# Altium integrated library ON Semi ESD Protection Diodes & Arrays.IntLib: 286 symbols (part 7 of 8)
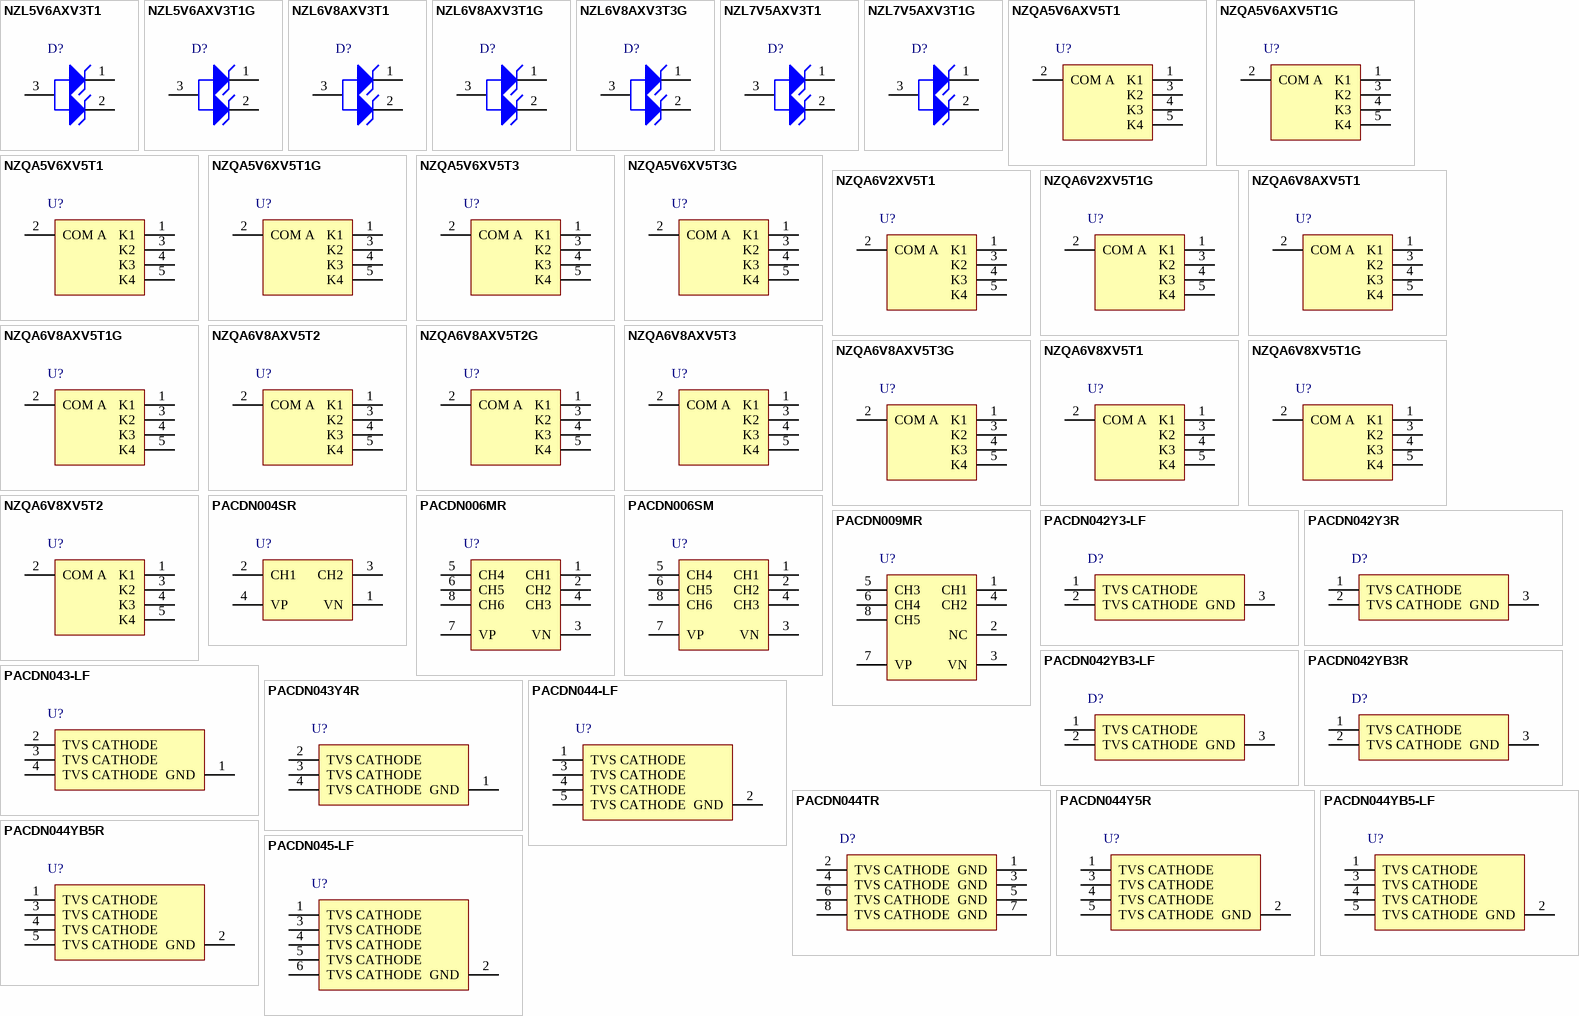
[diagram p13: symbols NZL5V6AXV3T1 to PACDN045-LF]

## PACDN044YB5R
designator U?
Transient Voltage Suppressor and ESD Protector, 5-Pin SC70, Pb-Free, Tape and Reel; Manufacturer: On Semiconductor; PartNumber: PACDN044YB5R; Direction: Unidirectional; Number of Lines: 4; PPK Max (W): 0.225; DatasheetVersion: Rev. 5; PackageVersion: Rev. A, 06/2010; PackageReference: SC70-5-419AC-01; PackageDescription: 5-Pin Small Outline Transistor, Body 1.25 x 2 mm, Pitch 0.65 mm; Supplier 1: Digi-Key; Supplier Part Number 1: PACDN044YB5R-ND; Packing: Tape and Reel; RoHS: Pb-Free; Mounting Technology: Surface Mount; Code_JEDEC: MO-203; ComponentLink1Description: Manufacturer URL; ComponentLink1URL: http://www.onsemi.com/; ComponentLink2Description: Datasheet; ComponentLink2URL: http://www.onsemi.com/pub_link/Collateral/PACDN042-D.PDF; ComponentLink3Description: Package Specification; ComponentLink3URL: http://www.onsemi.com/pub_link/Collateral/419AC.PDF
footprint ONSC-SC70-5-419AC-01_N (SOT23, 5-Leads, Body 2.2x1.35mm, Pitch 0.65mm, IPC Medium Density)
footprint ONSC-SC70-5-419AC-01_L (SOT23, 5-Leads, Body 2.2x1.35mm, Pitch 0.65mm, IPC High Density)
footprint ONSC-SC70-5-419AC-01_M (SOT23, 5-Leads, Body 2.2x1.35mm, Pitch 0.65mm, IPC Low Density)
pins: 1 TVS CATHODE "The cathode of the respective TVS diode, which should be connected to the node requiring transient voltage protection.", 2 GND (power) "The anode of the TVS diodes.", 3 TVS CATHODE "The cathode of the respective TVS diode, which should be connected to the node requiring transient voltage protection.", 4 TVS CATHODE "The cathode of the respective TVS diode, which should be connected to the node requiring transient voltage protection.", 5 TVS CATHODE "The cathode of the respective TVS diode, which should be connected to the node requiring transient voltage protection."

## PACDN045-LF
designator U?
Transient Voltage Suppressor and ESD Protector, 6-Pin SOT-23, Pb-Free, Tape and Reel; Manufacturer: On Semiconductor; PartNumber: PACDN045-LF; Direction: Unidirectional; Number of Lines: 5; PPK Max (W): 0.225; DatasheetVersion: Rev. 5; PackageVersion: Rev. B, 02/2012; PackageReference: SOT23-6-527AJ; PackageDescription: 6-Pin Small Outline Transistor, Body 2.85 x 1.55 mm, Pitch 0.95 mm; Packing: Tape and Reel; RoHS: Pb-Free; Mounting Technology: Surface Mount; ComponentLink1Description: Manufacturer URL; ComponentLink1URL: http://www.onsemi.com/; ComponentLink2Description: Datasheet; ComponentLink2URL: http://www.onsemi.com/pub_link/Collateral/PACDN042-D.PDF; ComponentLink3Description: Package Specification; ComponentLink3URL: http://www.onsemi.com/pub_link/Collateral/527AJ.PDF
footprint ONSC-SOT23-6-527AJ_V (SOT23, 6-Leads, Body 3x1.8mm, Pitch 0.95mm)
pins: 1 TVS CATHODE, 2 GND (power), 3 TVS CATHODE, 4 TVS CATHODE, 5 TVS CATHODE, 6 TVS CATHODE

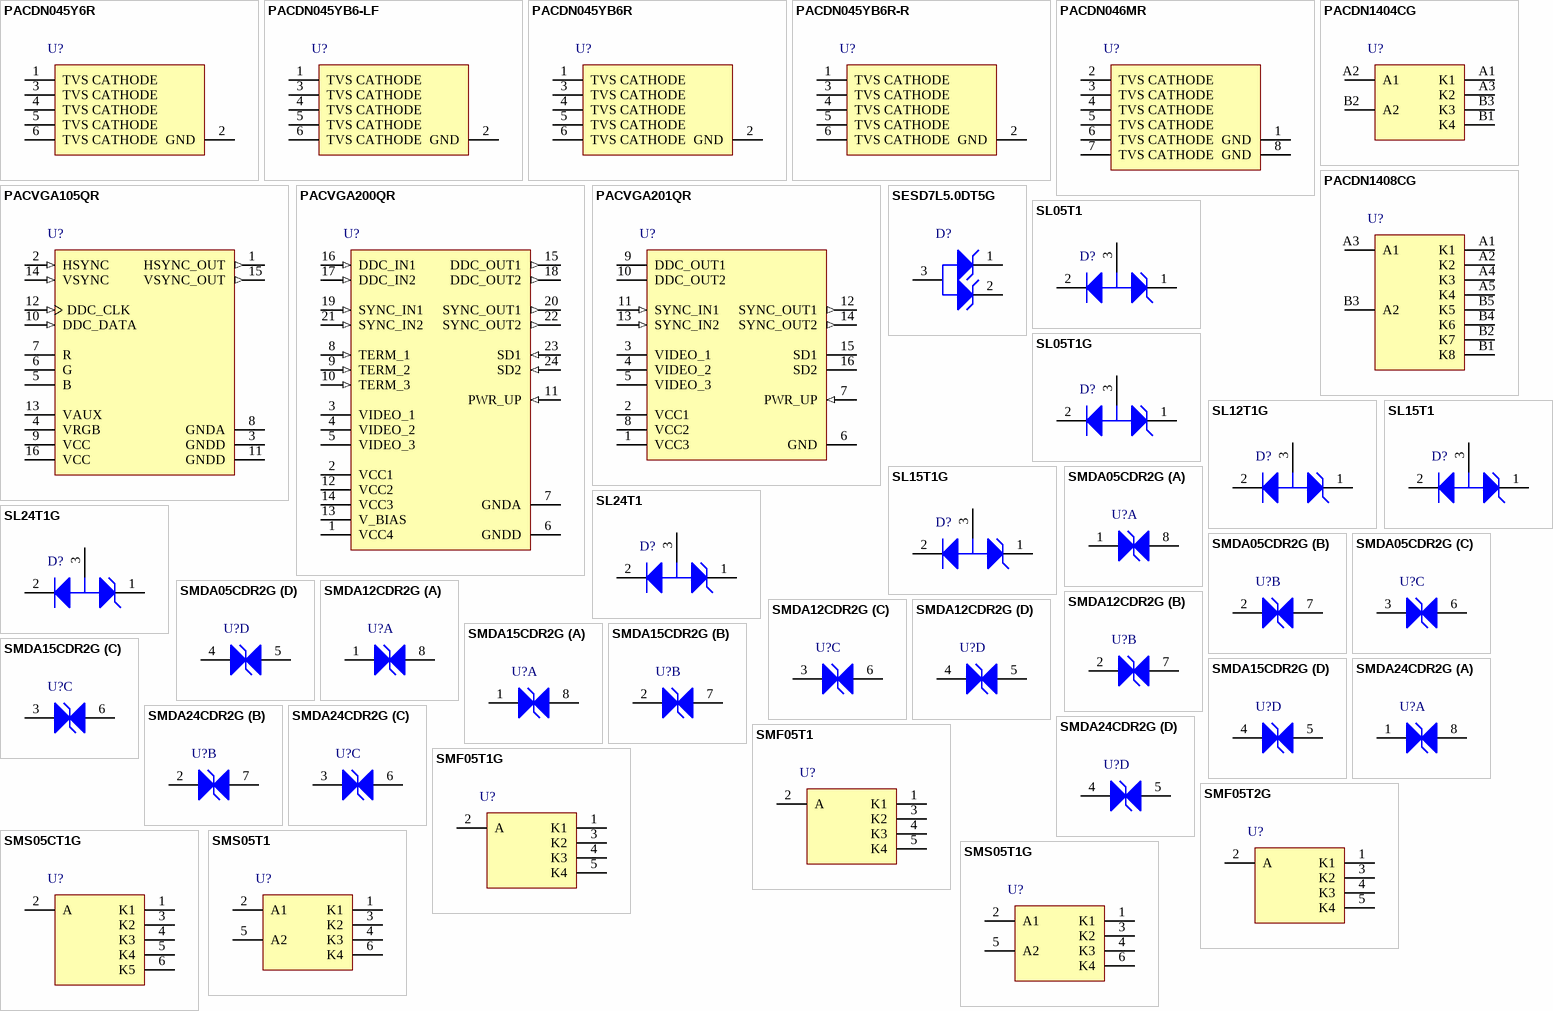
[diagram p6: symbols PACDN045Y6R to SMS05T1G]

## PACDN045Y6R
designator U?
Transient Voltage Suppressor and ESD Protector, 6-Pin SOT-23, Pb-Free, Tape and Reel; Manufacturer: On Semiconductor; PartNumber: PACDN045Y6R; Direction: Unidirectional; Number of Lines: 5; PPK Max (W): 0.225; DatasheetVersion: Rev. 5; PackageVersion: Rev. B, 02/2012; PackageReference: SOT23-6-527AJ; PackageDescription: 6-Pin Small Outline Transistor, Body 2.85 x 1.55 mm, Pitch 0.95 mm; Supplier 1: Digi-Key; Supplier Part Number 1: PACDN045Y6R-ND; Supplier 2: Mouser; Supplier Part Number 2: 748-PACDN045Y6R; Packing: Tape and Reel; RoHS: Pb-Free; Mounting Technology: Surface Mount; ComponentLink1Description: Manufacturer URL; ComponentLink1URL: http://www.onsemi.com/; ComponentLink2Description: Datasheet; ComponentLink2URL: http://www.onsemi.com/pub_link/Collateral/PACDN042-D.PDF; ComponentLink3Description: Package Specification; ComponentLink3URL: http://www.onsemi.com/pub_link/Collateral/527AJ.PDF
footprint ONSC-SOT23-6-527AJ_V (SOT23, 6-Leads, Body 3x1.8mm, Pitch 0.95mm)
pins: 1 TVS CATHODE, 2 GND (power), 3 TVS CATHODE, 4 TVS CATHODE, 5 TVS CATHODE, 6 TVS CATHODE

## PACDN045YB6-LF
designator U?
Transient Voltage Suppressor and ESD Protector, 6-Pin SC70, Pb-Free, Tape and Reel; Manufacturer: On Semiconductor; PartNumber: PACDN045YB6-LF; Direction: Unidirectional; Number of Lines: 5; PPK Max (W): 0.225; DatasheetVersion: Rev. 5; PackageVersion: Rev. A, 07/2010; PackageReference: SC70-6-419AD-01; PackageDescription: 6-Pin Small Outline Transistor, Body 2 x 1.25 mm, Pitch 0.65 mm; Packing: Tape and Reel; RoHS: Pb-Free; Mounting Technology: Surface Mount; Code_JEDEC: MO-203; ComponentLink1Description: Manufacturer URL; ComponentLink1URL: http://www.onsemi.com/; ComponentLink2Description: Datasheet; ComponentLink2URL: http://www.onsemi.com/pub_link/Collateral/PACDN042-D.PDF; ComponentLink3Description: Package Specification; ComponentLink3URL: http://www.onsemi.com/pub_link/Collateral/419AD.PDF
footprint ONSC-SC70-6-419AD-01_N (SOT23, 6-Leads, Body 2.2x1.35mm, Pitch 0.65mm, IPC Medium Density)
footprint ONSC-SC70-6-419AD-01_L (SOT23, 6-Leads, Body 2.2x1.35mm, Pitch 0.65mm, IPC High Density)
footprint ONSC-SC70-6-419AD-01_M (SOT23, 6-Leads, Body 2.2x1.35mm, Pitch 0.65mm, IPC Low Density)
pins: 1 TVS CATHODE, 2 GND (power), 3 TVS CATHODE, 4 TVS CATHODE, 5 TVS CATHODE, 6 TVS CATHODE

## PACDN045YB6R
designator U?
Transient Voltage Suppressor and ESD Protector, 6-Pin SC70, Pb-Free, Tape and Reel; Manufacturer: On Semiconductor; PartNumber: PACDN045YB6R; Direction: Unidirectional; Number of Lines: 5; PPK Max (W): 0.225; DatasheetVersion: Rev. 5; PackageVersion: Rev. A, 07/2010; PackageReference: SC70-6-419AD-01; PackageDescription: 6-Pin Small Outline Transistor, Body 2 x 1.25 mm, Pitch 0.65 mm; Supplier 1: Digi-Key; Supplier Part Number 1: PACDN045YB6R-ND; Supplier 2: Mouser; Supplier Part Number 2: 748-PACDN045YB6R; Packing: Tape and Reel; RoHS: Pb-Free; Mounting Technology: Surface Mount; Code_JEDEC: MO-203; ComponentLink1Description: Manufacturer URL; ComponentLink1URL: http://www.onsemi.com/; ComponentLink2Description: Datasheet; ComponentLink2URL: http://www.onsemi.com/pub_link/Collateral/PACDN042-D.PDF; ComponentLink3Description: Package Specification; ComponentLink3URL: http://www.onsemi.com/pub_link/Collateral/419AD.PDF
footprint ONSC-SC70-6-419AD-01_N (SOT23, 6-Leads, Body 2.2x1.35mm, Pitch 0.65mm, IPC Medium Density)
footprint ONSC-SC70-6-419AD-01_L (SOT23, 6-Leads, Body 2.2x1.35mm, Pitch 0.65mm, IPC High Density)
footprint ONSC-SC70-6-419AD-01_M (SOT23, 6-Leads, Body 2.2x1.35mm, Pitch 0.65mm, IPC Low Density)
pins: 1 TVS CATHODE, 2 GND (power), 3 TVS CATHODE, 4 TVS CATHODE, 5 TVS CATHODE, 6 TVS CATHODE

## PACDN045YB6R-R
designator U?
Transient Voltage Suppressor and ESD Protector, 6-Pin SC70, Pb-Free, Tape and Reel; Manufacturer: On Semiconductor; PartNumber: PACDN045YB6R-R; Direction: Unidirectional; Number of Lines: 5; PPK Max (W): 0.225; DatasheetVersion: Rev. 5; PackageVersion: Rev. A, 07/2010; PackageReference: SC70-6-419AD-01; PackageDescription: 6-Pin Small Outline Transistor, Body 2 x 1.25 mm, Pitch 0.65 mm; Packing: Tape and Reel; RoHS: Pb-Free; Mounting Technology: Surface Mount; Code_JEDEC: MO-203; ComponentLink1Description: Manufacturer URL; ComponentLink1URL: http://www.onsemi.com/; ComponentLink2Description: Datasheet; ComponentLink2URL: http://www.onsemi.com/pub_link/Collateral/PACDN042-D.PDF; ComponentLink3Description: Package Specification; ComponentLink3URL: http://www.onsemi.com/pub_link/Collateral/419AD.PDF
footprint ONSC-SC70-6-419AD-01_N (SOT23, 6-Leads, Body 2.2x1.35mm, Pitch 0.65mm, IPC Medium Density)
footprint ONSC-SC70-6-419AD-01_L (SOT23, 6-Leads, Body 2.2x1.35mm, Pitch 0.65mm, IPC High Density)
footprint ONSC-SC70-6-419AD-01_M (SOT23, 6-Leads, Body 2.2x1.35mm, Pitch 0.65mm, IPC Low Density)
pins: 1 TVS CATHODE, 2 GND (power), 3 TVS CATHODE, 4 TVS CATHODE, 5 TVS CATHODE, 6 TVS CATHODE

## PACDN046MR
designator U?
Transient Voltage Suppressor and ESD Protector, 8-Pin MICRO, Pb-Free, Tape and Reel; Manufacturer: On Semiconductor; PartNumber: PACDN046MR; Direction: Unidirectional; Number of Lines: 6; PPK Max (W): 0.225; DatasheetVersion: Rev. 5; PackageVersion: Rev. J, 07/2013; PackageReference: MICRO-8-846A-02; PackageDescription: 8-Pin Small Outline Pacakge, Body 3 x 3 mm, Pitch 0.65 mm; Supplier 1: Digi-Key; Supplier Part Number 1: PACDN046MR-ND; Packing: Tape and Reel; RoHS: Pb-Free; Mounting Technology: Surface Mount; ComponentLink1Description: Manufacturer URL; ComponentLink1URL: http://www.onsemi.com/; ComponentLink2Description: Datasheet; ComponentLink2URL: http://www.onsemi.com/pub_link/Collateral/PACDN042-D.PDF; ComponentLink3Description: Package Specification; ComponentLink3URL: http://www.onsemi.com/pub_link/Collateral/846A-02.PDF
footprint ONSC-MICRO-8-846A-02_V (SOP, 8-Leads, Body 3.1x3.1mm, Pitch 0.65mm)
pins: 1 GND (power) "The anode of the TVS diodes.", 2 TVS CATHODE "The cathode of the respective TVS diode, which should be connected to the node requiring transient voltage protection.", 3 TVS CATHODE "The anode of the TVS diodes.", 4 TVS CATHODE "The cathode of the respective TVS diode, which should be connected to the node requiring transient voltage protection.", 5 TVS CATHODE "The anode of the TVS diodes.", 6 TVS CATHODE "The cathode of the respective TVS diode, which should be connected to the node requiring transient voltage protection.", 7 TVS CATHODE "The cathode of the respective TVS diode, which should be connected to the node requiring transient voltage protection.", 8 GND (power) "The anode of the TVS diodes."

## PACDN1404CG
designator U?
ESD Protection Array, 6-Pin WLCSP, Pb-Free, Tape and Reel; Manufacturer: On Semiconductor; PartNumber: PACDN1404CG; C Max (pF): 47; IR Max (uA): 0.1; Number of Lines: 4; DatasheetVersion: Rev. 4; PackageVersion: Rev. O, 07/2010; PackageReference: WLCSP-6-567BD-01; PackageDescription: 6-Ball Wafer Level Chip Scale Package, Body 1.8 x 1.15 mm, Pitch 0.65 mm; Supplier 1: Digi-Key; Supplier Part Number 1: PACDN1404CG-ND; Supplier 2: Newark; Supplier Part Number 2: 99R2905; Supplier 3: Mouser; Supplier Part Number 3: 863-PACDN1404CG; Packing: Tape and Reel; RoHS: Pb-Free; Mounting Technology: Surface Mount; ComponentLink1Description: Manufacturer URL; ComponentLink1URL: http://www.onsemi.com/; ComponentLink2Description: Datasheet; ComponentLink2URL: http://www.onsemi.com/pub_link/Collateral/PACDN1404-D.PDF; ComponentLink3Description: Package Specification; ComponentLink3URL: http://www.onsemi.com/pub_link/Collateral/567BD.PDF
footprint ONSC-WLCSP-6-567BD-01 (BGA, 6-Balls, Body 1.8x1.15mm, Pitch 0.65mm)
pins: A1 K1, A2 A1, A3 K2, B1 K4, B2 A2, B3 K3

## PACDN1408CG
designator U?
ESD Protection Array, 10-Pin WLCSP, Pb-Free, Tape and Reel; Manufacturer: On Semiconductor; PartNumber: PACDN1408CG; C Max (pF): 47; IR Max (uA): 0.1; Number of Lines: 8; DatasheetVersion: Rev. 4; PackageVersion: Rev. O, 07/2010; PackageReference: WLCSP-10-567BM-01; PackageDescription: 10-Ball Wafer Level Chip Scale Package, Body 3.1 x 1.15 mm, Pitch 0.65 mm; Supplier 1: Digi-Key; Supplier Part Number 1: PACDN1408CG-ND; Supplier 2: Newark; Supplier Part Number 2: 99R2906; Supplier 3: Mouser; Supplier Part Number 3: 748-PACDN1408CG; Packing: Tape and Reel; RoHS: Pb-Free; Mounting Technology: Surface Mount; ComponentLink1Description: Manufacturer URL; ComponentLink1URL: http://www.onsemi.com/; ComponentLink2Description: Datasheet; ComponentLink2URL: http://www.onsemi.com/pub_link/Collateral/PACDN1404-D.PDF; ComponentLink3Description: Package Specification; ComponentLink3URL: http://www.onsemi.com/pub_link/Collateral/567BM.PDF
footprint ONSC-WLCSP-10-567BM-01_V (BGA, 10-Balls, Body 3.1x1.15mm, Pitch 0.65mm)
pins: A1 K1, A2 K2, A3 A1, A4 K3, A5 K4, B1 K8, B2 K7, B3 A2, B4 K6, B5 K5

## PACVGA105QR
designator U?
VGA Port Companion Circuit, 16-Pin QSOP, Pb-Free, Tape and Reel; Manufacturer: On Semiconductor; PartNumber: PACVGA105QR; Direction: Unidirectional; Number of Lines: 7; PPK Max (W): 0.75; DatasheetVersion: Rev. 3; PackageVersion: Rev. A, 03/2011; PackageReference: QSOP-16-492-01; PackageDescription: 16-Pin Small Outline Package, Body 4.89 x 3.9 mm, Pitch 0.635 mm; Supplier 1: Digi-Key; Supplier Part Number 1: PACVGA105QR-ND; Supplier 2: Newark; Supplier Part Number 2: 99R2918; Supplier 3: Mouser; Supplier Part Number 3: 748-PACVGA105QR; Packing: Tape and Reel; RoHS: Pb-Free; Mounting Technology: Surface Mount; ComponentLink1Description: Manufacturer URL; ComponentLink1URL: http://www.onsemi.com/; ComponentLink2Description: Datasheet; ComponentLink2URL: http://www.onsemi.com/pub_link/Collateral/PACVGA105-D.PDF; ComponentLink3Description: Package Specification; ComponentLink3URL: http://www.onsemi.com/pub_link/Collateral/492-01.PDF
footprint ONSC-QSOP-16-492-01_V (SOP, 16-Leads, Body 4.9x3.9mm, Pitch 0.635mm)
pins: 1 HSYNC_OUT (out) "Horizontal sync signal buffer output. Connects to the video connector side of the horizontal sync line.", 2 HSYNC (in) "Horizontal sync signal buffer input. Connects to the VGA Controller side of the horizontal sync line.", 3 GNDD (power) "Digital ground reference supply pin.", 4 VRGB (power) "VRGB supply pin. This is an isolated supply pin for the R, G and B ESD protection circuits.", 5 B "Blue signal video protection channel. This pin is typically tied to the B video line between the VGA controller device and the video connector", 6 G "Green signal video protection channel. This pin is typically tied to the G video line between the VGA controller device and the video connector.", 7 R "Red signal video protection channel. This pin is typically tied to the R video line between the VGA controller device and the video connector", 8 GNDA (power) "Analog ground reference supply pin.", 9 VCC (power) "VCC supply pin. This is the main supply input for the DDC_CLK and DDC_DATA pullup resistors and ESD protection circuits. It is also connected to the sync buffers and to the ESD protection diodes present on the HSYNC_OUT and (See Datasheet)", 10 DDC_DATA (in) "DDC data pin.", 11 GNDD (power) "Digital ground reference supply pin.", 12 DDC_CLK (in) "DDC clock pin.", 13 VAUX (power) "VAUX supply pin. This is the supply input for the 50 kohm  pullups connected to the HSYNC and VSYNC buffer inputs.", 14 VSYNC (in) "Vertical sync signal buffer input. Connects to the VGA Controller side of the vertical sync line.", 15 VSYNC_OUT (out) "Vertical sync signal buffer output. Connects to the video connector side of the vertical sync line.", 16 VCC (power) "VCC supply pin. This is the main supply input for the DDC_CLK and DDC_DATA pullup resistors and ESD protection circuits. It is also connected to the sync buffers and to the ESD protection diodes present on the HSYNC_OUT and (See Datasheet)"

## PACVGA200QR
designator U?
VGA Port Companion Circuit, 24-Pin QSOP, Pb-Free, Tape and Reel; Manufacturer: On Semiconductor; PartNumber: PACVGA200QR; Direction: Unidirectional; Number of Lines: 7; PPK Max (W): 1; DatasheetVersion: Rev. 3; PackageVersion: Rev. A, 05/2008; PackageReference: QSOP-24-492B-01; PackageDescription: 24-Pin Small Outline Package, Body 8.65 x 3.9 mm, Pitch 0.635 mm; Supplier 1: Digi-Key; Supplier Part Number 1: PACVGA200QROSTR-ND; Supplier 2: Digi-Key; Supplier Part Number 2: PACVGA200QROSCT-ND; Supplier 3: Digi-Key; Supplier Part Number 3: PACVGA200QROSDKR-ND; Supplier 4: Newark; Supplier Part Number 4: 99R2919; Supplier 5: Mouser; Supplier Part Number 5: 748-PACVGA200QR; Packing: Tape and Reel; RoHS: Pb-Free; Mounting Technology: Surface Mount; ComponentLink1Description: Manufacturer URL; ComponentLink1URL: http://www.onsemi.com/; ComponentLink2Description: Datasheet; ComponentLink2URL: http://www.onsemi.cn/pub_link/Collateral/PACVGA200-D.PDF; ComponentLink3Description: Package Specification; ComponentLink3URL: http://www.onsemi.cn/pub_link/Collateral/492B-01.PDF
footprint ONSC-QSOP-24-492B-01_V (SOP, 24-Leads, Body 8.65x3.9mm, Pitch 0.635mm)
pins: 1 VCC4 (power) "Positive voltage supply pin. This is an isolated VCC pin for the SYNC_1, SYNC_2, SD1 and SD2 circuits.", 2 VCC1 (power) "Positive voltage supply pin. This is an isolated VCC pin for the VIDEO_1, VIDEO_2 and VIDEO_3 ESD circuits.", 3 VIDEO_1 "RGB Video Protection Channels. These pins tie to the RGB video lines (for example, the Blue signal) between the VGA controller device and the video connector.", 4 VIDEO_2 "RGB Video Protection Channels. These pins tie to the RGB video lines (for example, the Blue signal) between the VGA controller device and the video connector.", 5 VIDEO_3 "RGB Video Protection Channels. These pins tie to the RGB video lines (for example, the Blue signal) between the VGA controller device and the video connector.", 6 GNDD (power) "Digital Ground reference supply pin.", 7 GNDA (power) "Ground reference supply pin for TERM_1, TERM_2 and TERM_3 pins.", 8 TERM_1 (in) "RGB Video Termination Channels. These pins tie to the RGB video lines (for example, the Blue signal) providing a 75 ohm termination to GNDA for the given video channel.", 9 TERM_2 (in) "RGB Video Termination Channels. These pins tie to the RGB video lines (for example, the Blue signal) providing a 75 ohm termination to GNDA for the given video channel.", 10 TERM_3 (in) "RGB Video Termination Channels. These pins tie to the RGB video lines (for example, the Blue signal) providing a 75 ohm termination to GNDA for the given video channel.", 11 PWR_UP (in) "Sync Signal Output 1. Ties to the video connector side of one of the sync lines (for example the Horizontal Sync signal).", 12 VCC2 (power) "Positive voltage supply pin. This is an isolated VCC pin for the DDC_IN1 and DDC_IN2 input circuits. Defines the logic one level for the DDC_OUTn outputs.", 13 V_BIAS (power) "Used to derive VCC3 from VCC4 input.", 14 VCC3 (power) "Positive voltage supply pin. This is an isolated VCC pin for the DDC_OUT1 and DDC_OUT2 ESD protection circuits.", 15 DDC_OUT1 (out) "DDC Signal Output 1. Connects to the connector side of one of the DDC signals (for example, the bidirectional DDC_Data serial line).", 16 DDC_IN1 (in) "DDC Signal Input 1. Connects to the VGA Controller side of one of the DDC signals (for example, the bidirectional DDC_Data serial line).", 17 DDC_IN2 (in) "DDC Signal Input 2. Connects to the VGA Controller side of one of the DDC signals (for example, the bidirectional DDC_Clk).", 18 DDC_OUT2 (out) "DDC Signal Output 2. Connects to the connector side of one of the DDC signals (for example, the bidirectional DDC_Clk).", 19 SYNC_IN1 (in) "Sync Signal Buffer Input 1. Connects to the VGA Controller side of one of the sync lines (for example, the Horizontal Sync signal).", 20 SYNC_OUT1 (out) "Sync Signal Buffer Output 1. Connects to the video connector side of one of the sync lines (for example the Horizontal Sync signal).", 21 SYNC_IN2 (in) "Sync Signal Buffer Input 2. Connects to the VGA Controller side of one of the sync lines (for example, the Vertical Sync signal).", 22 SYNC_OUT2 (out) "Sync Signal Buffer Output 2. Connects to the video connector side of one of the sync lines (for example the Vertical Sync signal).", 23 SD1 (in) "Sync Signal Filter 1. Connects to the video connector side of one of the sync lines (for example the Vertical Sync signal).", 24 SD2 (in) "Sync Signal Filter 2. Connects to the video connector side of one of the sync lines (for example the Horizontal Sync signal)."

## PACVGA201QR
designator U?
VGA Port Companion Circuit, 16-Pin QSOP, Pb-Free, Tape and Reel; Manufacturer: On Semiconductor; PartNumber: PACVGA201QR; Direction: Unidirectional; Number of Lines: 7; PPK Max (W): 0.75; DatasheetVersion: Rev. 4; PackageVersion: Rev. A, 03/2011; PackageReference: QSOP-16-492-01; PackageDescription: 16-Pin Small Outline Package, Body 4.89 x 3.9 mm, Pitch 0.635 mm; Supplier 1: Digi-Key; Supplier Part Number 1: PACVGA201QROSTR-ND; Supplier 2: Digi-Key; Supplier Part Number 2: PACVGA201QROSCT-ND; Supplier 3: Digi-Key; Supplier Part Number 3: PACVGA201QROSDKR-ND; Supplier 4: Newark; Supplier Part Number 4: 99R2920; Supplier 5: Mouser; Supplier Part Number 5: 748-PACVGA201QR; Packing: Tape and Reel; RoHS: Pb-Free; Mounting Technology: Surface Mount; ComponentLink1Description: Manufacturer URL; ComponentLink1URL: http://www.onsemi.com/; ComponentLink2Description: Datasheet; ComponentLink2URL: http://www.onsemi.cn/pub_link/Collateral/PACVGA201-D.PDF; ComponentLink3Description: Package Specification; ComponentLink3URL: http://www.onsemi.com/pub_link/Collateral/492-01.PDF
footprint ONSC-QSOP-16-492-01_V (SOP, 16-Leads, Body 4.9x3.9mm, Pitch 0.635mm)
pins: 1 VCC3 (power) "VCC3 supply pin. This is an isolated supply input for the two sync buffers and SD1 and SD2 ESD protection circuits.", 2 VCC1 (power) "VCC1 supply pin. This is an isolated supply pin for the VIDEO_1, VIDEO_2 and VIDEO_3 ESD protection circuits.", 3 VIDEO_1 "Video signal ESD protection channel. This pin is typically tied one of the video lines between the VGA controller device and the video connector.", 4 VIDEO_2 "Video signal ESD protection channel. This pin is typically tied one of the video lines between the VGA controller device and the video connector.", 5 VIDEO_3 "Video signal ESD protection channel. This pin is typically tied one of the video lines between the VGA controller device and the video connector.", 6 GND (power) "Ground reference supply pin.", 7 PWR_UP (in) "Enables the sync buffers when high. When PWR_UP is low the sync outputs are forced low and the inputs can be floated.", 8 VCC2 (power) "VCC2 supply pin. This is an isolated supply pin for the DDC_OUT1 and DDC_OUT2 ESD protection circuits. Internally, VCC2 is derived from the VCC3 input if the VCC2 input is not connected to a supply voltage.", 9 DDC_OUT1 "DDC_OUT1 ESD protection channel.", 10 DDC_OUT2 "DDC_OUT2 ESD protection channel.", 11 SYNC_IN1 (in) "Sync signal buffer input. Connects to the VGA Controller side of one of the sync lines.", 12 SYNC_OUT1 (out) "Sync signal buffer output. Connects to the video connector side of one of the sync lines.", 13 SYNC_IN2 (in) "Sync signal buffer input. Connects to the VGA Controller side of one of the sync lines.", 14 SYNC_OUT2 (out) "Sync signal buffer output. Connects to the video connector side of one of the sync lines.", 15 SD1 "ESD protection channel input.", 16 SD2 "ESD protection channel input."

## SESD7L5.0DT5G
designator D?
Transient Voltage Suppressor, ESD Protection Diode with Ultra-Low Capacitance, 3-Pin SOT-723, Pb-Free, Tape and Reel; Manufacturer: On Semiconductor; PartNumber: SESD7L5.0DT5G; Direction: Unidirectional; IR Max (uA): 1; Number of Lines: 2; V(BR) Min (V): 5.4; VRWM Max (V): 5; DatasheetVersion: Rev. 6; PackageVersion: Rev. D, 08/2009; PackageReference: SOT-723-3-631AA-01; PackageDescription: 3-Pin Small Outline Transistor, Body 1.2 x 0.8 mm, Pitch 0.4 mm; Supplier 1: Digi-Key; Supplier Part Number 1: SESD7L5.0DT5G-ND; Supplier 2: Mouser; Supplier Part Number 2: 863-SESD7L5.0DT5G; Packing: Tape and Reel; RoHS: Pb-Free; Mounting Technology: Surface Mount; ComponentLink1Description: Manufacturer URL; ComponentLink1URL: http://www.onsemi.com/; ComponentLink2Description: Datasheet; ComponentLink2URL: http://www.onsemi.cn/pub_link/Collateral/ESD7L-D.PDF; ComponentLink3Description: Package Specification; ComponentLink3URL: http://www.onsemi.com/pub_link/Collateral/631AA.PDF
footprint ONSC-SOT-723-3-631AA-01_V (SOT223, 3-Leads, Body 1.2x0.8mm, Pitch 0.4mm)
pins: 1 K1, 2 K2, 3 A

## SL05T1
designator D?
300 W, Low Capacitance TVS for High Speed Line Protection, 3-Pin SOT-23, Tape and Reel; Manufacturer: On Semiconductor; PartNumber: SL05T1; C Max (pF): 5; Direction: Unidirectional; IR Max (uA): 20; Number of Lines: 1; PPK Max (W): 300; V(BR) Min (V): 6; DatasheetVersion: Rev. 8; PackageVersion: Rev. AP, 11/2009; PackageReference: SOT-23-3-318-08; PackageDescription: 3-Pin Small Outline Transistor, Body 2.92 x 1.3 mm, Pitch 0.95 mm; Packing: Tape and Reel; VRWM Max (V): 5; Mounting Technology: Surface Mount; ComponentLink1Description: Manufacturer URL; ComponentLink1URL: http://www.onsemi.com/; ComponentLink2Description: Datasheet; ComponentLink2URL: http://www.onsemi.cn/pub_link/Collateral/SL05T1-D.PDF; ComponentLink3Description: Package Specification; ComponentLink3URL: http://www.onsemi.cn/pub_link/Collateral/318-08.PDF
footprint ONSC-SOT-23-3-318-08_V (SOT23, 3-Leads, Body 2.92x1.3mm, Pitch 0.95mm)
pins: 1 K1, 2 K2, 3 NC

## SL05T1G
designator D?
300 W, Low Capacitance TVS for High Speed Line Protection, 3-Pin SOT-23, Pb-Free, Tape and Reel; Manufacturer: On Semiconductor; PartNumber: SL05T1G; C Max (pF): 5; Direction: Unidirectional; IR Max (uA): 20; Number of Lines: 1; PPK Max (W): 300; V(BR) Min (V): 6; DatasheetVersion: Rev. 8; PackageVersion: Rev. AP, 11/2009; PackageReference: SOT-23-3-318-08; PackageDescription: 3-Pin Small Outline Transistor, Body 2.92 x 1.3 mm, Pitch 0.95 mm; Supplier 1: Digi-Key; Supplier Part Number 1: SL05T1GOSTR-ND; Supplier 2: Digi-Key; Supplier Part Number 2: SL05T1GOSCT-ND; Supplier 3: Digi-Key; Supplier Part Number 3: SL05T1GOSDKR-ND; Supplier 4: Farnell; Supplier Part Number 4: 1885185; Supplier 5: Newark; Supplier Part Number 5: 45J2264; Supplier 6: Newark; Supplier Part Number 6: 10N9605; Supplier 7: Mouser; Supplier Part Number 7: 863-SL05T1G; Packing: Tape and Reel; RoHS: Pb-Free; VRWM Max (V): 5; Mounting Technology: Surface Mount; ComponentLink1Description: Manufacturer URL; ComponentLink1URL: http://www.onsemi.com/; ComponentLink2Description: Datasheet; ComponentLink2URL: http://www.onsemi.cn/pub_link/Collateral/SL05T1-D.PDF; ComponentLink3Description: Package Specification; ComponentLink3URL: http://www.onsemi.cn/pub_link/Collateral/318-08.PDF
footprint ONSC-SOT-23-3-318-08_V (SOT23, 3-Leads, Body 2.92x1.3mm, Pitch 0.95mm)
pins: 1 K1, 2 K2, 3 NC

## SL12T1G
designator D?
300 W, Low Capacitance TVS for High Speed Line Protection, 3-Pin SOT-23, Pb-Free, Tape and Reel; Manufacturer: On Semiconductor; PartNumber: SL12T1G; C Max (pF): 5; Direction: Unidirectional; IR Max (uA): 1; PPK Max (W): 300; V(BR) Min (V): 13.3; VRWM Max (V): 12; DatasheetVersion: Rev. 8; PackageVersion: Rev. AP, 11/2009; PackageReference: SOT-23-3-318-08; PackageDescription: 3-Pin Small Outline Transistor, Body 2.92 x 1.3 mm, Pitch 0.95 mm; Supplier 1: Digi-Key; Supplier Part Number 1: SL12T1G-ND; Supplier 2: Newark; Supplier Part Number 2: 34R5382; Supplier 3: Mouser; Supplier Part Number 3: 863-SL12T1G; Number of Lines: 1; Packing: Tape and Reel; RoHS: Pb-Free; Mounting Technology: Surface Mount; ComponentLink1Description: Manufacturer URL; ComponentLink1URL: http://www.onsemi.com/; ComponentLink2Description: Datasheet; ComponentLink2URL: http://www.onsemi.cn/pub_link/Collateral/SL05T1-D.PDF; ComponentLink3Description: Package Specification; ComponentLink3URL: http://www.onsemi.cn/pub_link/Collateral/318-08.PDF
footprint ONSC-SOT-23-3-318-08_V (SOT23, 3-Leads, Body 2.92x1.3mm, Pitch 0.95mm)
pins: 1 K1, 2 K2, 3 NC

## SL15T1
designator D?
300 W, Low Capacitance TVS for High Speed Line Protection, 3-Pin SOT-23, Tape and Reel; Manufacturer: On Semiconductor; PartNumber: SL15T1; C Max (pF): 5; Direction: Unidirectional; IR Max (uA): 1; PPK Max (W): 300; V(BR) Min (V): 16.7; VRWM Max (V): 15; DatasheetVersion: Rev. 8; PackageVersion: Rev. AP, 11/2009; PackageReference: SOT-23-3-318-08; PackageDescription: 3-Pin Small Outline Transistor, Body 2.92 x 1.3 mm, Pitch 0.95 mm; Supplier 1: Digi-Key; Supplier Part Number 1: SL15T1OS-ND; Number of Lines: 1; Packing: Tape and Reel; Mounting Technology: Surface Mount; ComponentLink1Description: Manufacturer URL; ComponentLink1URL: http://www.onsemi.com/; ComponentLink2Description: Datasheet; ComponentLink2URL: http://www.onsemi.cn/pub_link/Collateral/SL05T1-D.PDF; ComponentLink3Description: Package Specification; ComponentLink3URL: http://www.onsemi.cn/pub_link/Collateral/318-08.PDF
footprint ONSC-SOT-23-3-318-08_V (SOT23, 3-Leads, Body 2.92x1.3mm, Pitch 0.95mm)
pins: 1 K1, 2 K2, 3 NC

## SL15T1G
designator D?
300 W, Low Capacitance TVS for High Speed Line Protection, 3-Pin SOT-23, Pb-Free, Tape and Reel; Manufacturer: On Semiconductor; PartNumber: SL15T1G; C Max (pF): 5; Direction: Unidirectional; IR Max (uA): 1; PPK Max (W): 300; V(BR) Min (V): 16.7; VRWM Max (V): 15; DatasheetVersion: Rev. 8; PackageVersion: Rev. AP, 11/2009; PackageReference: SOT-23-3-318-08; PackageDescription: 3-Pin Small Outline Transistor, Body 2.92 x 1.3 mm, Pitch 0.95 mm; Supplier 1: Digi-Key; Supplier Part Number 1: SL15T1GOSTR-ND; Supplier 2: Digi-Key; Supplier Part Number 2: SL15T1GOSCT-ND; Supplier 3: Digi-Key; Supplier Part Number 3: SL15T1GOSDKR-ND; Supplier 4: Newark; Supplier Part Number 4: 10N9606; Supplier 5: Mouser; Supplier Part Number 5: 863-SL15T1G; Number of Lines: 1; Packing: Tape and Reel; RoHS: Pb-Free; Mounting Technology: Surface Mount; ComponentLink1Description: Manufacturer URL; ComponentLink1URL: http://www.onsemi.com/; ComponentLink2Description: Datasheet; ComponentLink2URL: http://www.onsemi.cn/pub_link/Collateral/SL05T1-D.PDF; ComponentLink3Description: Package Specification; ComponentLink3URL: http://www.onsemi.cn/pub_link/Collateral/318-08.PDF
footprint ONSC-SOT-23-3-318-08_V (SOT23, 3-Leads, Body 2.92x1.3mm, Pitch 0.95mm)
pins: 1 K1, 2 K2, 3 NC

## SL24T1
designator D?
300 W, Low Capacitance TVS for High Speed Line Protection, 3-Pin SOT-23, Tape and Reel; Manufacturer: On Semiconductor; PartNumber: SL24T1; C Max (pF): 5; Direction: Unidirectional; IR Max (uA): 1; PPK Max (W): 300; V(BR) Min (V): 26.7; VRWM Max (V): 24; DatasheetVersion: Rev. 8; PackageVersion: Rev. AP, 11/2009; PackageReference: SOT-23-3-318-08; PackageDescription: 3-Pin Small Outline Transistor, Body 2.92 x 1.3 mm, Pitch 0.95 mm; Number of Lines: 1; Packing: Tape and Reel; Mounting Technology: Surface Mount; ComponentLink1Description: Manufacturer URL; ComponentLink1URL: http://www.onsemi.com/; ComponentLink2Description: Datasheet; ComponentLink2URL: http://www.onsemi.cn/pub_link/Collateral/SL05T1-D.PDF; ComponentLink3Description: Package Specification; ComponentLink3URL: http://www.onsemi.cn/pub_link/Collateral/318-08.PDF
footprint ONSC-SOT-23-3-318-08_V (SOT23, 3-Leads, Body 2.92x1.3mm, Pitch 0.95mm)
pins: 1 K1, 2 K2, 3 NC

## SL24T1G
designator D?
300 W, Low Capacitance TVS for High Speed Line Protection, 3-Pin SOT-23, Pb-Free, Tape and Reel; Manufacturer: On Semiconductor; PartNumber: SL24T1G; C Max (pF): 5; Direction: Unidirectional; IR Max (uA): 1; PPK Max (W): 300; V(BR) Min (V): 26.7; VRWM Max (V): 24; DatasheetVersion: Rev. 8; PackageVersion: Rev. AP, 11/2009; PackageReference: SOT-23-3-318-08; PackageDescription: 3-Pin Small Outline Transistor, Body 2.92 x 1.3 mm, Pitch 0.95 mm; Supplier 1: Digi-Key; Supplier Part Number 1: SL24T1GOSTR-ND; Supplier 2: Digi-Key; Supplier Part Number 2: SL24T1GOSCT-ND; Supplier 3: Digi-Key; Supplier Part Number 3: SL24T1GOSDKR-ND; Supplier 4: Farnell; Supplier Part Number 4: 2317484; Supplier 5: Newark; Supplier Part Number 5: 09R9712; Supplier 6: Newark; Supplier Part Number 6: 26K5187; Supplier 7: Mouser; Supplier Part Number 7: 863-SL24T1G; Number of Lines: 1; Packing: Tape and Reel; RoHS: Pb-Free; Mounting Technology: Surface Mount; ComponentLink1Description: Manufacturer URL; ComponentLink1URL: http://www.onsemi.com/; ComponentLink2Description: Datasheet; ComponentLink2URL: http://www.onsemi.cn/pub_link/Collateral/SL05T1-D.PDF; ComponentLink3Description: Package Specification; ComponentLink3URL: http://www.onsemi.cn/pub_link/Collateral/318-08.PDF
footprint ONSC-SOT-23-3-318-08_V (SOT23, 3-Leads, Body 2.92x1.3mm, Pitch 0.95mm)
pins: 1 K1, 2 K2, 3 NC

## SMDA05CDR2G
designator U?
Bi-Directional TVS Array for High-Speed Data Line Protection, 8-Pin SOIC, Pb-Free, Tape and Reel; Manufacturer: On Semiconductor; PartNumber: SMDA05CDR2G; C Max (pF): 350; Direction: Bidirectional; IR Max (uA): 20; Number of Lines: 8; PPK Max (W): 300; V(BR) Min (V): 6; VRWM Max (V): 5; DatasheetVersion: Rev. 0; PackageVersion: Rev. AK, 02/2011; PackageReference: SOIC-8-751-07; PackageDescription: 8-Pin Small Outline Integrated Circuit, Body 4.9 x 3.9 mm, Pitch 1.27 mm; Supplier 1: Digi-Key; Supplier Part Number 1: SMDA05CDR2GOSTR-ND; Supplier 2: Digi-Key; Supplier Part Number 2: SMDA05CDR2GOSCT-ND; Supplier 3: Digi-Key; Supplier Part Number 3: SMDA05CDR2GOSDKR-ND; Supplier 4: Farnell; Supplier Part Number 4: 1961710; Supplier 5: Newark; Supplier Part Number 5: 52T8573; Supplier 6: Mouser; Supplier Part Number 6: 863-SMDA05CDR2G; Packing: Tape and Reel; RoHS: Pb-Free; Mounting Technology: Surface Mount; ComponentLink1Description: Manufacturer URL; ComponentLink1URL: http://www.onsemi.com/; ComponentLink2Description: Datasheet; ComponentLink2URL: http://www.onsemi.cn/pub_link/Collateral/SMDA05C-D.PDF; ComponentLink3Description: Package Specification; ComponentLink3URL: http://www.onsemi.com/pub_link/Collateral/751-07.PDF
footprint ONSC-SOIC-8-751-07_V (SOIC, 8-Leads, Body 4.9x3.9mm, Pitch 1.27mm)
part A pins: 1 A1, 8 A8
part B pins: 2 A2, 7 A7
part C pins: 3 A3, 6 A6
part D pins: 4 A4, 5 A5

## SMDA12CDR2G
designator U?
Bi-Directional TVS Array for High-Speed Data Line Protection, 8-Pin SOIC, Pb-Free, Tape and Reel; Manufacturer: On Semiconductor; PartNumber: SMDA12CDR2G; C Max (pF): 120; Direction: Bidirectional; IR Max (uA): 1; Number of Lines: 8; PPK Max (W): 300; V(BR) Min (V): 13.3; VRWM Max (V): 12; DatasheetVersion: Rev. 0; PackageVersion: Rev. AK, 02/2011; PackageReference: SOIC-8-751-07; PackageDescription: 8-Pin Small Outline Integrated Circuit, Body 4.9 x 3.9 mm, Pitch 1.27 mm; Supplier 1: Digi-Key; Supplier Part Number 1: SMDA12CDR2G-ND; Supplier 2: Newark; Supplier Part Number 2: 52T8574; Supplier 3: Mouser; Supplier Part Number 3: 863-SMDA12CDR2G; Packing: Tape and Reel; RoHS: Pb-Free; Mounting Technology: Surface Mount; ComponentLink1Description: Manufacturer URL; ComponentLink1URL: http://www.onsemi.com/; ComponentLink2Description: Datasheet; ComponentLink2URL: http://www.onsemi.cn/pub_link/Collateral/SMDA05C-D.PDF; ComponentLink3Description: Package Specification; ComponentLink3URL: http://www.onsemi.com/pub_link/Collateral/751-07.PDF
footprint ONSC-SOIC-8-751-07_V (SOIC, 8-Leads, Body 4.9x3.9mm, Pitch 1.27mm)
part A pins: 1 A1, 8 A8
part B pins: 2 A2, 7 A7
part C pins: 3 A3, 6 A6
part D pins: 4 A4, 5 A5

## SMDA15CDR2G
designator U?
Bi-Directional TVS Array for High-Speed Data Line Protection, 8-Pin SOIC, Pb-Free, Tape and Reel; Manufacturer: On Semiconductor; PartNumber: SMDA15CDR2G; C Max (pF): 75; Direction: Bidirectional; IR Max (uA): 1; Number of Lines: 8; PPK Max (W): 300; V(BR) Min (V): 16.7; VRWM Max (V): 15; DatasheetVersion: Rev. 0; PackageVersion: Rev. AK, 02/2011; PackageReference: SOIC-8-751-07; PackageDescription: 8-Pin Small Outline Integrated Circuit, Body 4.9 x 3.9 mm, Pitch 1.27 mm; Supplier 1: Digi-Key; Supplier Part Number 1: SMDA15CDR2G-ND; Supplier 2: Mouser; Supplier Part Number 2: 863-SMDA15CDR2G; Packing: Tape and Reel; RoHS: Pb-Free; Mounting Technology: Surface Mount; ComponentLink1Description: Manufacturer URL; ComponentLink1URL: http://www.onsemi.com/; ComponentLink2Description: Datasheet; ComponentLink2URL: http://www.onsemi.cn/pub_link/Collateral/SMDA05C-D.PDF; ComponentLink3Description: Package Specification; ComponentLink3URL: http://www.onsemi.com/pub_link/Collateral/751-07.PDF
footprint ONSC-SOIC-8-751-07_V (SOIC, 8-Leads, Body 4.9x3.9mm, Pitch 1.27mm)
part A pins: 1 A1, 8 A8
part B pins: 2 A2, 7 A7
part C pins: 3 A3, 6 A6
part D pins: 4 A4, 5 A5

## SMDA24CDR2G
designator U?
Bi-Directional TVS Array for High-Speed Data Line Protection, 8-Pin SOIC, Pb-Free, Tape and Reel; Manufacturer: On Semiconductor; PartNumber: SMDA24CDR2G; C Max (pF): 50; Direction: Bidirectional; IR Max (uA): 1; Number of Lines: 8; PPK Max (W): 300; V(BR) Min (V): 26.7; VRWM Max (V): 24; DatasheetVersion: Rev. 0; PackageVersion: Rev. AK, 02/2011; PackageReference: SOIC-8-751-07; PackageDescription: 8-Pin Small Outline Integrated Circuit, Body 4.9 x 3.9 mm, Pitch 1.27 mm; Supplier 1: Digi-Key; Supplier Part Number 1: SMDA24CDR2G-ND; Supplier 2: Mouser; Supplier Part Number 2: 863-SMDA24CDR2G; Packing: Tape and Reel; RoHS: Pb-Free; Mounting Technology: Surface Mount; ComponentLink1Description: Manufacturer URL; ComponentLink1URL: http://www.onsemi.com/; ComponentLink2Description: Datasheet; ComponentLink2URL: http://www.onsemi.cn/pub_link/Collateral/SMDA05C-D.PDF; ComponentLink3Description: Package Specification; ComponentLink3URL: http://www.onsemi.com/pub_link/Collateral/751-07.PDF
footprint ONSC-SOIC-8-751-07_V (SOIC, 8-Leads, Body 4.9x3.9mm, Pitch 1.27mm)
part A pins: 1 A1, 8 A8
part B pins: 2 A2, 7 A7
part C pins: 3 A3, 6 A6
part D pins: 4 A4, 5 A5

## SMF05T1
designator U?
Quad Array ESD Protection Diodes with Low Clamping Voltage, 5-Pin SC70, Tape and Reel; Manufacturer: On Semiconductor; PartNumber: SMF05T1; C Max (pF): 90; Direction: Unidirectional; IR Max (uA): 5; Number of Lines: 4; PPK Max (W): 200; V(BR) Min (V): 6; DatasheetVersion: Rev. 4; PackageVersion: Rev. L, 01/2013; PackageReference: SC70-5-419A-02; PackageDescription: 5-Pin Small Outline Transistor, Body 2 x 1.25 mm, Pitch 0.65 mm; Supplier 1: Digi-Key; Supplier Part Number 1: SMF05T1-ND; Packing: Tape and Reel; Mounting Technology: Surface Mount; ComponentLink1Description: Manufacturer URL; ComponentLink1URL: http://www.onsemi.com/; ComponentLink2Description: Datasheet; ComponentLink2URL: http://www.onsemi.cn/pub_link/Collateral/SMF05-D.PDF; ComponentLink3Description: Package Specification; ComponentLink3URL: http://www.onsemi.cn/pub_link/Collateral/419A-02.PDF
footprint ONSC-SC70-5-419A-02_V (SOT23, 5-Leads, Body 2x1.25mm, Pitch 0.65mm)
pins: 1 K1, 2 A, 3 K2, 4 K3, 5 K4

## SMF05T1G
designator U?
Quad Array ESD Protection Diodes with Low Clamping Voltage, 5-Pin SC70, Pb-Free, Tape and Reel; Manufacturer: On Semiconductor; PartNumber: SMF05T1G; C Max (pF): 90; Direction: Unidirectional; IR Max (uA): 5; Number of Lines: 4; PPK Max (W): 200; V(BR) Min (V): 6; DatasheetVersion: Rev. 4; PackageVersion: Rev. L, 01/2013; PackageReference: SC70-5-419A-02; PackageDescription: 5-Pin Small Outline Transistor, Body 2 x 1.25 mm, Pitch 0.65 mm; Supplier 1: Digi-Key; Supplier Part Number 1: SMF05T1G-ND; Supplier 2: Newark; Supplier Part Number 2: 45J2266; Supplier 3: Mouser; Supplier Part Number 3: 863-SMF05T1G; Packing: Tape and Reel; RoHS: Pb-Free; Mounting Technology: Surface Mount; ComponentLink1Description: Manufacturer URL; ComponentLink1URL: http://www.onsemi.com/; ComponentLink2Description: Datasheet; ComponentLink2URL: http://www.onsemi.cn/pub_link/Collateral/SMF05-D.PDF; ComponentLink3Description: Package Specification; ComponentLink3URL: http://www.onsemi.cn/pub_link/Collateral/419A-02.PDF
footprint ONSC-SC70-5-419A-02_V (SOT23, 5-Leads, Body 2x1.25mm, Pitch 0.65mm)
pins: 1 K1, 2 A, 3 K2, 4 K3, 5 K4

## SMF05T2G
designator U?
Quad Array ESD Protection Diodes with Low Clamping Voltage, 5-Pin SC70, Pb-Free, Tape and Reel; Manufacturer: On Semiconductor; PartNumber: SMF05T2G; C Max (pF): 90; Direction: Unidirectional; IR Max (uA): 5; Number of Lines: 4; PPK Max (W): 200; V(BR) Min (V): 6; DatasheetVersion: Rev. 4; PackageVersion: Rev. L, 01/2013; PackageReference: SC70-5-419A-02; PackageDescription: 5-Pin Small Outline Transistor, Body 2 x 1.25 mm, Pitch 0.65 mm; Supplier 1: Digi-Key; Supplier Part Number 1: SMF05T2GOSTR-ND; Supplier 2: Digi-Key; Supplier Part Number 2: SMF05T2GOSCT-ND; Supplier 3: Newark; Supplier Part Number 3: 70K4431; Supplier 4: Mouser; Supplier Part Number 4: 863-SMF05T2G; Packing: Tape and Reel; RoHS: Pb-Free; Mounting Technology: Surface Mount; ComponentLink1Description: Manufacturer URL; ComponentLink1URL: http://www.onsemi.com/; ComponentLink2Description: Datasheet; ComponentLink2URL: http://www.onsemi.cn/pub_link/Collateral/SMF05-D.PDF; ComponentLink3Description: Package Specification; ComponentLink3URL: http://www.onsemi.cn/pub_link/Collateral/419A-02.PDF
footprint ONSC-SC70-5-419A-02_V (SOT23, 5-Leads, Body 2x1.25mm, Pitch 0.65mm)
pins: 1 K1, 2 A, 3 K2, 4 K3, 5 K4

## SMS05CT1G
designator U?
5-Line Transient Voltage Suppressor Array, 6-Pin TSOP, Pb-Free, Tape and Reel; Manufacturer: On Semiconductor; PartNumber: SMS05CT1G; C Max (pF): 400; Direction: Unidirectional; IR Max (uA): 5; PPK Max (W): 350; V(BR) Min (V): 6.2; DatasheetVersion: Rev. 7; PackageVersion: Rev. V, 06/2012; PackageReference: TSOP-6-318G-02; PackageDescription: 6-Pin Small Outline Package, Body 3 x 1.5 mm, Pitch 0.95 mm; Supplier 1: Digi-Key; Supplier Part Number 1: SMS05CT1GOSTR-ND; Supplier 2: Digi-Key; Supplier Part Number 2: SMS05CT1GOSCT-ND; Supplier 3: Digi-Key; Supplier Part Number 3: SMS05CT1GOSDKR-ND; Supplier 4: Farnell; Supplier Part Number 4: 2317479; Supplier 5: Newark; Supplier Part Number 5: 42K2646; Supplier 6: Newark; Supplier Part Number 6: 85W2872; Supplier 7: Mouser; Supplier Part Number 7: 863-SMS05CT1G; Number of Lines: 5; Packing: Tape and Reel; RoHS: Pb-Free; VRWM Max (V): 5; Mounting Technology: Surface Mount; ComponentLink1Description: Manufacturer URL; ComponentLink1URL: http://www.onsemi.com/; ComponentLink2Description: Datasheet; ComponentLink2URL: http://www.onsemi.cn/pub_link/Collateral/SMS05C-D.PDF; ComponentLink3Description: Package Specification; ComponentLink3URL: http://www.onsemi.com/pub_link/Collateral/318G-02.PDF
footprint ONSC-TSOP-6-318G-02_V (SOP, 6-Leads, Body 3x1.5mm, Pitch 0.95mm)
pins: 1 K1, 2 A, 3 K2, 4 K3, 5 K4, 6 K5

## SMS05T1
designator U?
Quad Transient Voltage Suppressor, for ESD Protection, 6-Pin SC-74, Tape and Reel; Manufacturer: On Semiconductor; PartNumber: SMS05T1; C Max (pF): 400; Direction: Unidirectional; IR Max (uA): 20; Number of Lines: 4; PPK Max (W): 350; V(BR) Min (V): 6; DatasheetVersion: Rev. 7; PackageVersion: Rev. N, 06/2012; PackageReference: SC-74-6-318F-05; PackageDescription: 6-Pin Small Outline Transistor, Body 3 x 1.5 mm, Pitch 0.95 mm; Supplier 1: Digi-Key; Supplier Part Number 1: SMS05T1OSTR-ND; Supplier 2: Digi-Key; Supplier Part Number 2: SMS05T1OSCT-ND; Packing: Tape and Reel; Mounting Technology: Surface Mount; ComponentLink1Description: Manufacturer URL; ComponentLink1URL: http://www.onsemi.com/; ComponentLink2Description: Datasheet; ComponentLink2URL: http://www.onsemi.cn/pub_link/Collateral/SMS05T1-D.PDF; ComponentLink3Description: Package Specification; ComponentLink3URL: http://www.onsemi.com/pub_link/Collateral/318F-05.PDF
footprint ONSC-SC-74-6-318F-05_V (SOT23, 6-Leads, Body 3x1.5mm, Pitch 0.95mm)
pins: 1 K1, 2 A1, 3 K2, 4 K3, 5 A2, 6 K4

## SMS05T1G
designator U?
Quad Transient Voltage Suppressor, for ESD Protection, 6-Pin SC-74, Pb-Free, Tape and Reel; Manufacturer: On Semiconductor; PartNumber: SMS05T1G; C Max (pF): 400; Direction: Unidirectional; IR Max (uA): 20; Number of Lines: 4; PPK Max (W): 350; V(BR) Min (V): 6; DatasheetVersion: Rev. 7; PackageVersion: Rev. N, 06/2012; PackageReference: SC-74-6-318F-05; PackageDescription: 6-Pin Small Outline Transistor, Body 3 x 1.5 mm, Pitch 0.95 mm; Supplier 1: Digi-Key; Supplier Part Number 1: SMS05T1GOSTR-ND; Supplier 2: Digi-Key; Supplier Part Number 2: SMS05T1GOSCT-ND; Supplier 3: Digi-Key; Supplier Part Number 3: SMS05T1GOSDKR-ND; Supplier 4: Farnell; Supplier Part Number 4: 2101228; Supplier 5: Farnell; Supplier Part Number 5: 2317789; Supplier 6: Newark; Supplier Part Number 6: 26K5189; Supplier 7: Newark; Supplier Part Number 7: 10N9733; Supplier 8: Mouser; Supplier Part Number 8: 863-SMS05T1G; Packing: Tape and Reel; RoHS: Pb-Free; Mounting Technology: Surface Mount; ComponentLink1Description: Manufacturer URL; ComponentLink1URL: http://www.onsemi.com/; ComponentLink2Description: Datasheet; ComponentLink2URL: http://www.onsemi.cn/pub_link/Collateral/SMS05T1-D.PDF; ComponentLink3Description: Package Specification; ComponentLink3URL: http://www.onsemi.com/pub_link/Collateral/318F-05.PDF
footprint ONSC-SC-74-6-318F-05_V (SOT23, 6-Leads, Body 3x1.5mm, Pitch 0.95mm)
pins: 1 K1, 2 A1, 3 K2, 4 K3, 5 A2, 6 K4

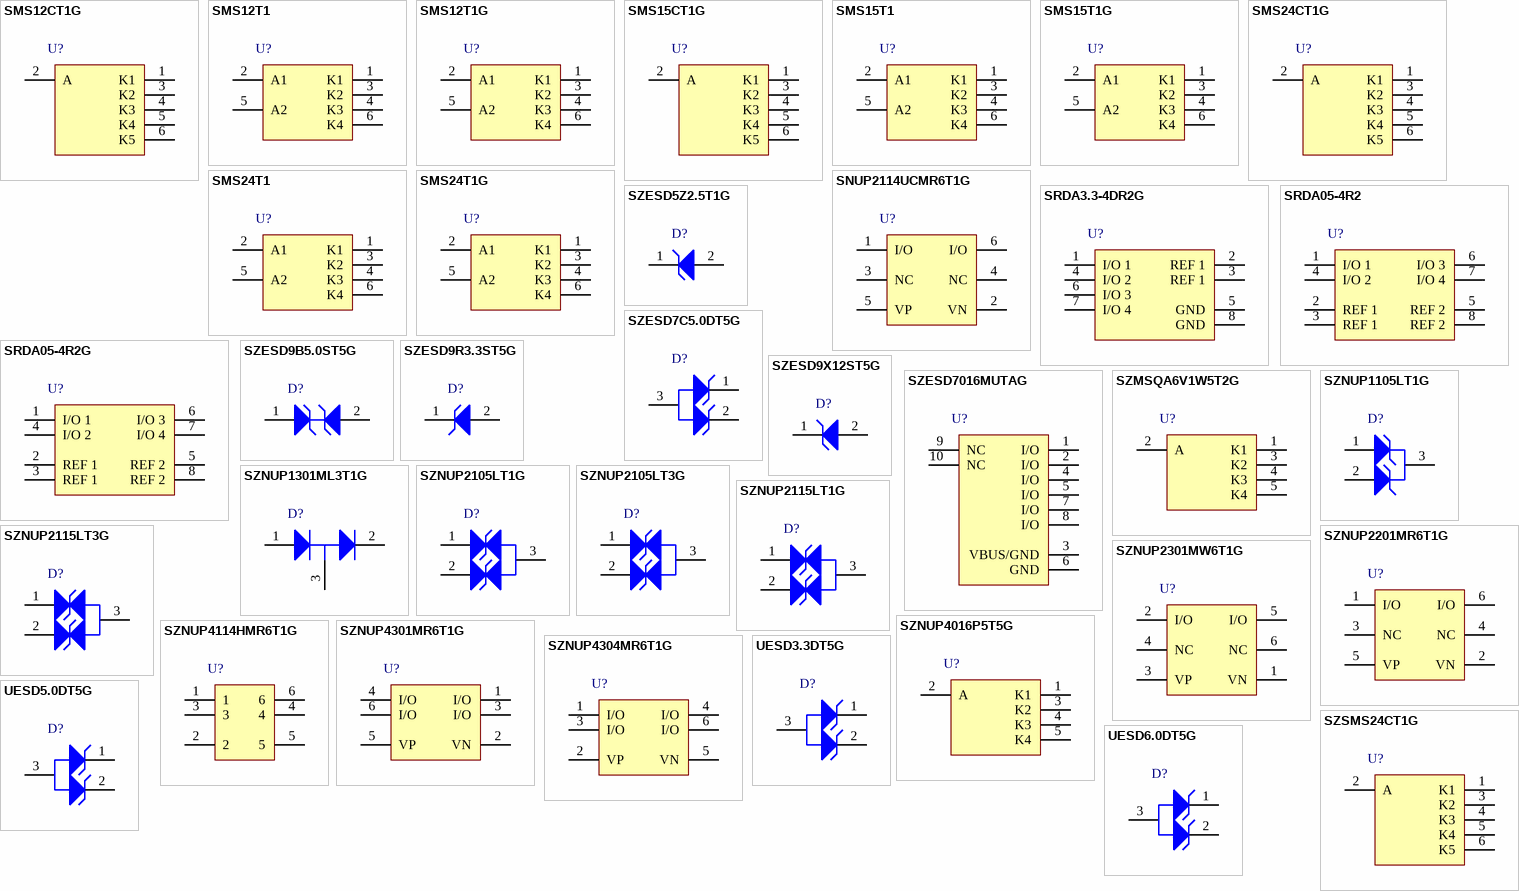
[diagram p7: symbols SMS12CT1G to UESD6.0DT5G]

## SMS12CT1G
designator U?
5-Line Transient Voltage Suppressor Array, 6-Pin TSOP, Pb-Free, Tape and Reel; Manufacturer: On Semiconductor; PartNumber: SMS12CT1G; C Max (pF): 150; Direction: Unidirectional; IR Max (uA): 1; Number of Lines: 5; PPK Max (W): 350; V(BR) Min (V): 13.3; VRWM Max (V): 12; DatasheetVersion: Rev. 7; PackageVersion: Rev. V, 06/2012; PackageReference: TSOP-6-318G-02; PackageDescription: 6-Pin Small Outline Package, Body 3 x 1.5 mm, Pitch 0.95 mm; Supplier 1: Digi-Key; Supplier Part Number 1: SMS12CT1GOSTR-ND; Supplier 2: Digi-Key; Supplier Part Number 2: SMS12CT1GOSCT-ND; Supplier 3: Digi-Key; Supplier Part Number 3: SMS12CT1GOSDKR-ND; Supplier 4: Newark; Supplier Part Number 4: 10N9609; Supplier 5: Mouser; Supplier Part Number 5: 863-SMS12CT1G; Packing: Tape and Reel; RoHS: Pb-Free; Mounting Technology: Surface Mount; ComponentLink1Description: Manufacturer URL; ComponentLink1URL: http://www.onsemi.com/; ComponentLink2Description: Datasheet; ComponentLink2URL: http://www.onsemi.cn/pub_link/Collateral/SMS05C-D.PDF; ComponentLink3Description: Package Specification; ComponentLink3URL: http://www.onsemi.com/pub_link/Collateral/318G-02.PDF
footprint ONSC-TSOP-6-318G-02_V (SOP, 6-Leads, Body 3x1.5mm, Pitch 0.95mm)
pins: 1 K1, 2 A, 3 K2, 4 K3, 5 K4, 6 K5

## SMS12T1
designator U?
Quad Transient Voltage Suppressor, for ESD Protection, 6-Pin SC-74, Tape and Reel; Manufacturer: On Semiconductor; PartNumber: SMS12T1; C Max (pF): 150; Direction: Unidirectional; IR Max (uA): 1; Number of Lines: 4; PPK Max (W): 350; V(BR) Min (V): 13.3; DatasheetVersion: Rev. 7; PackageVersion: Rev. N, 06/2012; PackageReference: SC-74-6-318F-05; PackageDescription: 6-Pin Small Outline Transistor, Body 3 x 1.5 mm, Pitch 0.95 mm; Supplier 1: Digi-Key; Supplier Part Number 1: SMS12T1OS-ND; Packing: Tape and Reel; Mounting Technology: Surface Mount; ComponentLink1Description: Manufacturer URL; ComponentLink1URL: http://www.onsemi.com/; ComponentLink2Description: Datasheet; ComponentLink2URL: http://www.onsemi.cn/pub_link/Collateral/SMS05T1-D.PDF; ComponentLink3Description: Package Specification; ComponentLink3URL: http://www.onsemi.com/pub_link/Collateral/318F-05.PDF
footprint ONSC-SC-74-6-318F-05_V (SOT23, 6-Leads, Body 3x1.5mm, Pitch 0.95mm)
pins: 1 K1, 2 A1, 3 K2, 4 K3, 5 A2, 6 K4

## SMS12T1G
designator U?
Quad Transient Voltage Suppressor, for ESD Protection, 6-Pin SC-74, Pb-Free, Tape and Reel; Manufacturer: On Semiconductor; PartNumber: SMS12T1G; C Max (pF): 150; Direction: Unidirectional; IR Max (uA): 1; Number of Lines: 4; PPK Max (W): 350; V(BR) Min (V): 13.3; DatasheetVersion: Rev. 7; PackageVersion: Rev. N, 06/2012; PackageReference: SC-74-6-318F-05; PackageDescription: 6-Pin Small Outline Transistor, Body 3 x 1.5 mm, Pitch 0.95 mm; Supplier 1: Digi-Key; Supplier Part Number 1: SMS12T1GOSTR-ND; Supplier 2: Digi-Key; Supplier Part Number 2: SMS12T1GOSCT-ND; Supplier 3: Digi-Key; Supplier Part Number 3: SMS12T1GOSDKR-ND; Supplier 4: Farnell; Supplier Part Number 4: 2317495; Supplier 5: Newark; Supplier Part Number 5: 90W9616; Supplier 6: Newark; Supplier Part Number 6: 26K5191; Supplier 7: Newark; Supplier Part Number 7: 85W2874; Supplier 8: Mouser; Supplier Part Number 8: 863-SMS12T1G; Packing: Tape and Reel; RoHS: Pb-Free; Mounting Technology: Surface Mount; ComponentLink1Description: Manufacturer URL; ComponentLink1URL: http://www.onsemi.com/; ComponentLink2Description: Datasheet; ComponentLink2URL: http://www.onsemi.cn/pub_link/Collateral/SMS05T1-D.PDF; ComponentLink3Description: Package Specification; ComponentLink3URL: http://www.onsemi.com/pub_link/Collateral/318F-05.PDF
footprint ONSC-SC-74-6-318F-05_V (SOT23, 6-Leads, Body 3x1.5mm, Pitch 0.95mm)
pins: 1 K1, 2 A1, 3 K2, 4 K3, 5 A2, 6 K4

## SMS15CT1G
designator U?
5-Line Transient Voltage Suppressor Array, 6-Pin TSOP, Pb-Free, Tape and Reel; Manufacturer: On Semiconductor; PartNumber: SMS15CT1G; C Max (pF): 125; Direction: Unidirectional; IR Max (uA): 1; Number of Lines: 5; PPK Max (W): 350; V(BR) Min (V): 17; VRWM Max (V): 15; DatasheetVersion: Rev. 7; PackageVersion: Rev. V, 06/2012; PackageReference: TSOP-6-318G-02; PackageDescription: 6-Pin Small Outline Package, Body 3 x 1.5 mm, Pitch 0.95 mm; Supplier 1: Digi-Key; Supplier Part Number 1: SMS15CT1GOSTR-ND; Supplier 2: Digi-Key; Supplier Part Number 2: SMS15CT1GOSCT-ND; Supplier 3: Digi-Key; Supplier Part Number 3: SMS15CT1GOSDKR-ND; Supplier 4: Farnell; Supplier Part Number 4: 2317498; Supplier 5: Newark; Supplier Part Number 5: 85W2875; Supplier 6: Mouser; Supplier Part Number 6: 863-SMS15CT1G; Packing: Tape and Reel; RoHS: Pb-Free; Mounting Technology: Surface Mount; ComponentLink1Description: Manufacturer URL; ComponentLink1URL: http://www.onsemi.com/; ComponentLink2Description: Datasheet; ComponentLink2URL: http://www.onsemi.cn/pub_link/Collateral/SMS05C-D.PDF; ComponentLink3Description: Package Specification; ComponentLink3URL: http://www.onsemi.com/pub_link/Collateral/318G-02.PDF
footprint ONSC-TSOP-6-318G-02_V (SOP, 6-Leads, Body 3x1.5mm, Pitch 0.95mm)
pins: 1 K1, 2 A, 3 K2, 4 K3, 5 K4, 6 K5